# Altium footprint library UD24121G-AG6-R.PcbLib: 2 footprints
Each footprint in its own frame and in the unit in brackets; x right, y up, seen from the top. Pads: shape width x height; smd on the part's side, far side on the other; paste and mask are expansions set on the pad; w line width, h text height; cw(c..) or ccw(c..) is an arc to the next point about the centre after c.
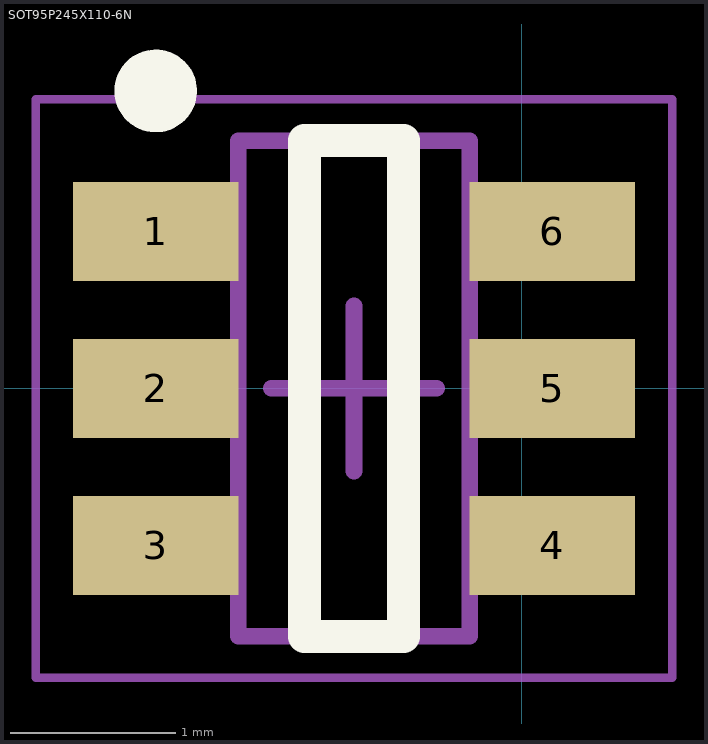
[diagram p0: the footprints below, top view; thin cyan lines are the x and y axes]

## SOT95P245X110-6N [mm] "SOT23, 6-Leads, Body 2,90x2,45mm, Pitch 0,95mm, IPC Medium Density"
height 1.1
pads (6):
  rect 1x0.6 smd: 1(-2.216,0.95) 2(-2.216,0) 3(-2.216,-0.95) 4(0.184,-0.95) 5(0.184,0) 6(0.184,0.95)
Top Overlay:
  circle w0.25: c-2.216,1.8 r0.125
  lines w0.2: -1.316,-1.5 -0.716,-1.5 -0.716,1.5 -1.316,1.5 -1.316,-1.5
Mechanical 13:
  lines w0.1: -1.716,-1.5 -1.716,1.5 -0.316,1.5 -0.316,-1.5 -1.716,-1.5
Mechanical 15:
  lines w0.05: -2.941,-1.75 -2.941,1.75 0.909,1.75 0.909,-1.75 -2.941,-1.75
  lines w0.1: -1.516,0 -0.516,0 ; -1.016,-0.5 -1.016,0.5
3D body: height 1.1, standoff 0.05, extent -1.716,-1.5 -0.316,1.5

## UD24121G-AG6-R [mm]